# Altium integrated library BB Variable Gain Amplifier.IntLib: 9 symbols
Pins are listed as number, name and electrical type; pins without a type are passive.

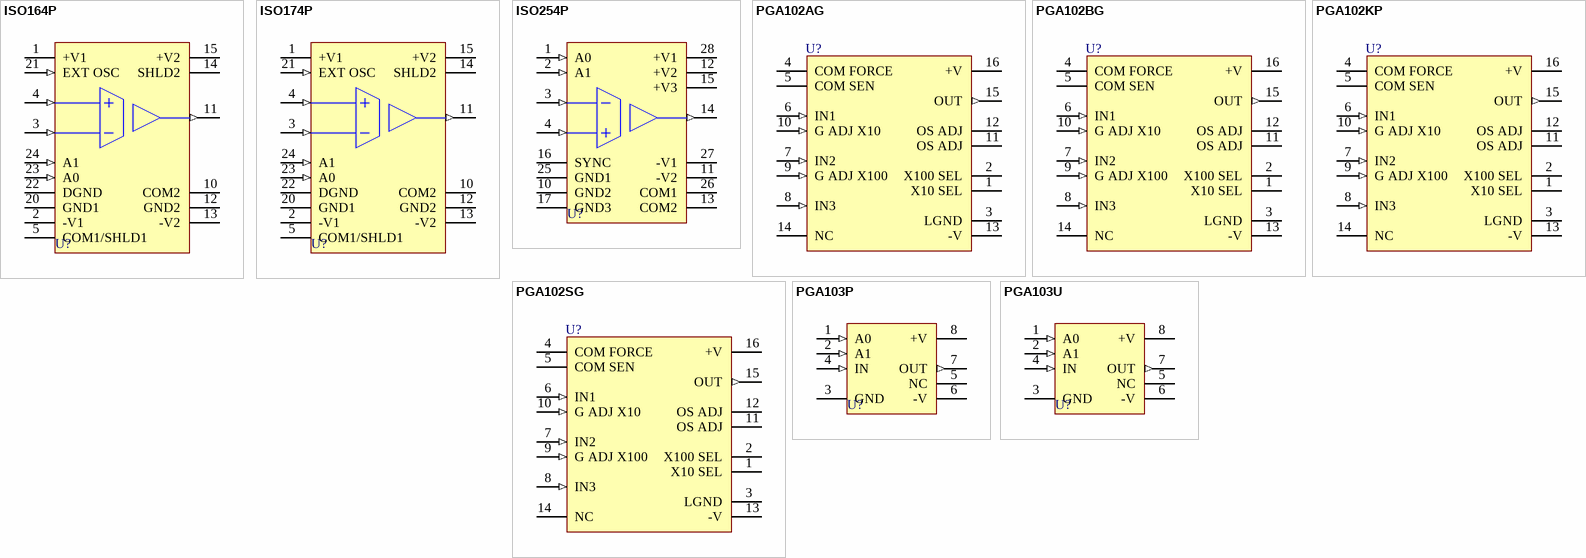
[diagram p0: symbols ISO164P to PGA103U]

## ISO164P
designator U?
Precision, Isolated Programmable Gain Amplifier; Note: No pins present at positions 6 to 9 and 16 to 19.; ComponentAvailability: Obsolete; Published: 8-Jun-2000; LatestRevisionDate: 06-Jun-2005; LatestRevisionNote: Stylized 3D Model Added.; DatasheetVersion: 1996~1997; PackageVersion: 1996/1997; PackageReference: 167-1; Publisher: Altium Limited; PackageDescription: DIP; 24 Leads (8 Absent); Row Spacing 15.24 mm; Pitch 2.54 mm; ComponentLink1Description: Manufacturer Link; ComponentLink1URL: http://www.ti.com/
footprint 167-1 (DIP; 24 Leads (8 Absent); Row Spacing 15.24 mm; Pitch 2.54 mm)
3D model 167-1 (DIP; 24 Leads (8 Absent); Row Spacing 15.24 mm; Pitch 2.54 mm)
pins: 1 +V1 (power), 2 -V1 (power), 3 IN- (in), 4 IN+ (in), 5 COM1/SHLD1 (power), 10 COM2 (power), 11 OUT (out), 12 GND2 (power), 13 -V2 (power), 14 SHLD2 (power), 15 +V2 (power), 20 GND1 (power), 21 EXT OSC (in), 22 DGND (power), 23 A0 (in), 24 A1 (in)

## ISO174P
designator U?
Precision, Isolated Programmable Gain Amplifier; Note: No pins present at positions 6 to 9 and 16 to 19.; ComponentAvailability: Obsolete; Published: 8-Jun-2000; LatestRevisionDate: 06-Jun-2005; LatestRevisionNote: Stylized 3D Model Added.; DatasheetVersion: 1996~1997; PackageVersion: 1996/1997; PackageReference: 167-1; Publisher: Altium Limited; PackageDescription: DIP; 24 Leads (8 Absent); Row Spacing 15.24 mm; Pitch 2.54 mm; ComponentLink1Description: Manufacturer Link; ComponentLink1URL: http://www.ti.com/
footprint 167-1 (DIP; 24 Leads (8 Absent); Row Spacing 15.24 mm; Pitch 2.54 mm)
3D model 167-1 (DIP; 24 Leads (8 Absent); Row Spacing 15.24 mm; Pitch 2.54 mm)
pins: 1 +V1 (power), 2 -V1 (power), 3 IN- (in), 4 IN+ (in), 5 COM1/SHLD1 (power), 10 COM2 (power), 11 OUT (out), 12 GND2 (power), 13 -V2 (power), 14 SHLD2 (power), 15 +V2 (power), 20 GND1 (power), 21 EXT OSC (in), 22 DGND (power), 23 A0 (in), 24 A1 (in)

## ISO254P
designator U?
Precision, Powered, Three-Port Isolated Programmable Gain Amplifier; Note: No pins present at positions 5 to 9 and 18 to 24.; Published: 8-Jun-2000; LatestRevisionDate: 17-Jul-2002; LatestRevisionNote: Re-released for DXP Platform.; DatasheetVersion: 1996~1997; PackageVersion: revA; PackageReference: ZZ335; Publisher: Altium Limited; PackageDescription: DIP; 28 Round Pins (12 Absent); Row Space 15.24 mm; Pitch 2.54 mm; ComponentLink1Description: Manufacturer Link; ComponentLink1URL: http://www.ti.com/
footprint ZZ335 (DIP; 28 Round Pins (12 Absent); Row Space 15.24 mm; Pitch 2.54 mm)
pins: 1 A0 (in), 2 A1 (in), 3 IN- (in), 4 IN+ (in), 10 GND2 (power), 11 -V2 (power), 12 +V2 (power), 13 COM2 (power), 14 OUT (out), 15 +V3 (power), 16 SYNC, 17 GND3 (power), 25 GND1 (power), 26 COM1 (power), 27 -V1 (power), 28 +V1 (power)

## PGA102AG
designator U?
High-Speed Programmable Gain Amplifier; Note: Pin 14 is not connected; Published: 8-Jun-2000; LatestRevisionDate: 06-Jun-2005; LatestRevisionNote: Stylized 3D Model Added.; DatasheetVersion: Sep-1993; PackageVersion: revD; PackageReference: 109D; Publisher: Altium Limited; PackageDescription: DIP; 16 Leads; Row Spacing 7.62 mm; Pitch 2.54 mm; ComponentLink1Description: Manufacturer Link; ComponentLink1URL: http://www.ti.com/; ComponentLink2Description: Datasheet; ComponentLink2URL: http://www-s.ti.com/sc/ds/PGA102.pdf
footprint 109D (DIP; 16 Leads; Row Spacing 7.62 mm; Pitch 2.54 mm)
3D model ZZ180 (DIP; 16 Leads; Row Spacing 7.62 mm; Pitch 2.54 mm)
pins: 1 X10 SEL, 2 X100 SEL, 3 LGND (power), 4 COM FORCE, 5 COM SEN, 6 IN1 (in), 7 IN2 (in), 8 IN3 (in), 9 G ADJ X100 (in), 10 G ADJ X10 (in), 11 OS ADJ, 12 OS ADJ, 13 -V (power), 14 NC, 15 OUT (out), 16 +V (power)

## PGA102BG
designator U?
High-Speed Programmable Gain Amplifier; Note: Pin 14 is not connected; Published: 8-Jun-2000; LatestRevisionDate: 06-Jun-2005; LatestRevisionNote: Stylized 3D Model Added.; DatasheetVersion: Sep-1993; PackageVersion: revD; PackageReference: 109D; Publisher: Altium Limited; PackageDescription: DIP; 16 Leads; Row Spacing 7.62 mm; Pitch 2.54 mm; ComponentLink1Description: Manufacturer Link; ComponentLink1URL: http://www.ti.com/; ComponentLink2Description: Datasheet; ComponentLink2URL: http://www-s.ti.com/sc/ds/PGA102.pdf
footprint 109D (DIP; 16 Leads; Row Spacing 7.62 mm; Pitch 2.54 mm)
3D model ZZ180 (DIP; 16 Leads; Row Spacing 7.62 mm; Pitch 2.54 mm)
pins: 1 X10 SEL, 2 X100 SEL, 3 LGND (power), 4 COM FORCE, 5 COM SEN, 6 IN1 (in), 7 IN2 (in), 8 IN3 (in), 9 G ADJ X100 (in), 10 G ADJ X10 (in), 11 OS ADJ, 12 OS ADJ, 13 -V (power), 14 NC, 15 OUT (out), 16 +V (power)

## PGA102KP
designator U?
High-Speed Programmable Gain Amplifier; Note: Pin 14 is not connected; Published: 8-Jun-2000; LatestRevisionDate: 06-Jun-2005; LatestRevisionNote: Stylized 3D Model Added.; DatasheetVersion: Sep-1993; PackageVersion: revF; PackageReference: ZZ180; Publisher: Altium Limited; PackageDescription: DIP, Plastic; 16 Leads; Row Spacing 7.62 mm; Pitch 2.54 mm; Code_JEDEC: MS-001-BB; ComponentLink1Description: Manufacturer Link; ComponentLink1URL: http://www.ti.com/; ComponentLink2Description: Datasheet; ComponentLink2URL: http://www-s.ti.com/sc/ds/PGA102.pdf
footprint ZZ180 (DIP, Plastic; 16 Leads; Row Spacing 7.62 mm; Pitch 2.54 mm)
3D model ZZ180 (DIP, Plastic; 16 Leads; Row Spacing 7.62 mm; Pitch 2.54 mm)
pins: 1 X10 SEL, 2 X100 SEL, 3 LGND (power), 4 COM FORCE, 5 COM SEN, 6 IN1 (in), 7 IN2 (in), 8 IN3 (in), 9 G ADJ X100 (in), 10 G ADJ X10 (in), 11 OS ADJ, 12 OS ADJ, 13 -V (power), 14 NC, 15 OUT (out), 16 +V (power)

## PGA102SG
designator U?
High-Speed Programmable Gain Amplifier; Note: Pin 14 is not connected; Published: 8-Jun-2000; LatestRevisionDate: 06-Jun-2005; LatestRevisionNote: Stylized 3D Model Added.; DatasheetVersion: Sep-1993; PackageVersion: revD; PackageReference: 109D; Publisher: Altium Limited; PackageDescription: DIP; 16 Leads; Row Spacing 7.62 mm; Pitch 2.54 mm; ComponentLink1Description: Manufacturer Link; ComponentLink1URL: http://www.ti.com/; ComponentLink2Description: Datasheet; ComponentLink2URL: http://www-s.ti.com/sc/ds/PGA102.pdf
footprint 109D (DIP; 16 Leads; Row Spacing 7.62 mm; Pitch 2.54 mm)
3D model ZZ180 (DIP; 16 Leads; Row Spacing 7.62 mm; Pitch 2.54 mm)
pins: 1 X10 SEL, 2 X100 SEL, 3 LGND (power), 4 COM FORCE, 5 COM SEN, 6 IN1 (in), 7 IN2 (in), 8 IN3 (in), 9 G ADJ X100 (in), 10 G ADJ X10 (in), 11 OS ADJ, 12 OS ADJ, 13 -V (power), 14 NC, 15 OUT (out), 16 +V (power)

## PGA103P
designator U?
Programmable Gain Amplifier; Note: Pin 5 is No internal Connection (NC) pin.; Published: 8-Jun-2000; LatestRevisionDate: 06-Jun-2005; LatestRevisionNote: Stylized 3D Model Added.; DatasheetVersion: Nov-1993; PackageVersion: revE; PackageReference: 006E; Publisher: Altium Limited; PackageDescription: DIP; 8 Leads; Row Spacing 7.62 mm; Pitch 2.54 mm; ComponentLink1Description: Manufacturer Link; ComponentLink1URL: http://www.ti.com/; ComponentLink2Description: Datasheet; ComponentLink2URL: http://www-s.ti.com/sc/ds/PGA103.pdf
footprint 006E (DIP; 8 Leads; Row Spacing 7.62 mm; Pitch 2.54 mm)
3D model DIP8 (DIP; 8 Leads; Row Spacing 7.62 mm; Pitch 2.54 mm)
pins: 1 A0 (in), 2 A1 (in), 3 GND (power), 4 IN (in), 5 NC, 6 -V (power), 7 OUT (out), 8 +V (power)

## PGA103U
designator U?
Programmable Gain Amplifier; Note: Pin 5 is No internal Connection (NC) pin.; Published: 8-Jun-2000; LatestRevisionDate: 13-Apr-2006; LatestRevisionNote: IPC-7351 Footprint Added.; DatasheetVersion: Nov-1993; PackageReference: 182H; Publisher: Altium Limited; PackageDescription: 8-Pin Small Outline Integrated Circuit 1.27 mm Pitch; Code_JEDEC: MS-012-AA; Code_IPC: SOIC127P600-8; ComponentLink1Description: Manufacturer Link; ComponentLink1URL: http://www.ti.com/; ComponentLink2Description: Datasheet; ComponentLink2URL: http://www-s.ti.com/sc/ds/PGA103.pdf
footprint 182H_N (SOIC, 8-Leads, Body 4.9x3.9mm, Pitch 1.27mm, IPC Medium Density)
footprint 182H_L (SOIC, 8-Leads, Body 4.9x3.9mm, Pitch 1.27mm, IPC High Density)
footprint 182H_M (SOIC, 8-Leads, Body 4.9x3.9mm, Pitch 1.27mm, IPC Low Density)
3D model SOIC8 (8-Pin Small Outline Integrated Circuit 1.27 mm Pitch)
pins: 1 A0 (in), 2 A1 (in), 3 GND (power), 4 IN (in), 5 NC, 6 -V (power), 7 OUT (out), 8 +V (power)